# EAGLE library part ST1S14 (library Misaka-IC)
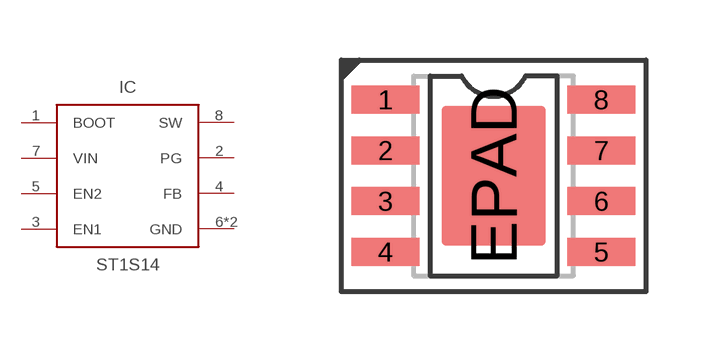
[diagram p20: symbol with the pads of POWERSO-8; footprint POWERSO-8]

Designator prefix IC

## ST1S14  [POWERSO-8]
1  BOOT  in
2  PG  out
3  EN1  in
4  FB  in
5  EN2  in
6  GND  pwr
7  VIN  pwr
8  SW  pwr
EPAD  GND  pwr

## Footprint POWERSO-8 (pad centres in mm)
Small-Outline Integrated Circuit 150 mil body
smd 1.7 x 0.7: 1 -2.7,1.905; 2 -2.7,0.635; 3 -2.7,-0.635; 4 -2.7,-1.905; 5 2.7,-1.905; 6 2.7,-0.635; 7 2.7,0.635; 8 2.7,1.905
smd 2.6 x 3.5: EPAD 0,0